# EAGLE library part S9V11F3S5 (library POLOLU-VoltageConverter)
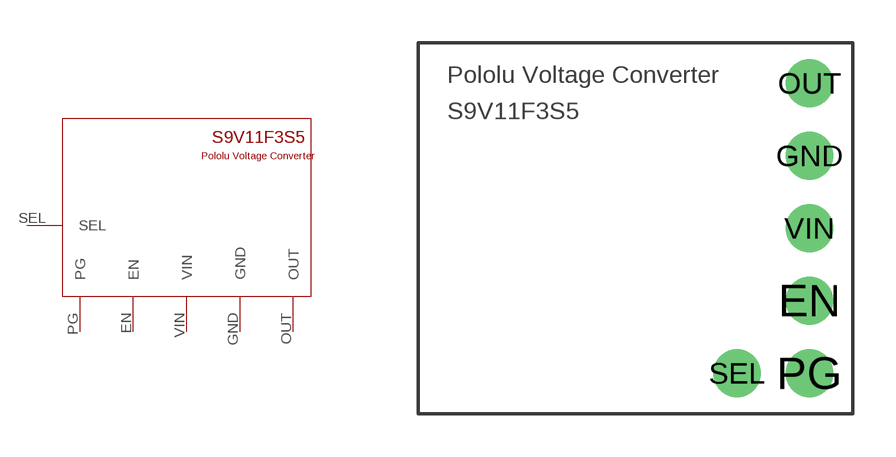
[diagram p0: symbol with the pads of S9V11F3S5; footprint S9V11F3S5]

Designator prefix -

## S9V11F3S5BOTLAND  [S9V11F3S5]
EN  EN
GND  GND
OUT  OUT
PG  PG
SEL  SEL
VIN  VIN

## Footprint S9V11F3S5 (pad centres in mm)
drill 0.9 pad 1.676: EN 6.35,-2.54; GND 6.35,2.54; OUT 6.35,5.08; PG 6.35,-5.08; SEL 3.81,-5.08; VIN 6.35,0